# Altium schematic symbol library BlueTooth.SchLib: 1 symbol
Pins are listed as number, name and electrical type; pins without a type are passive.

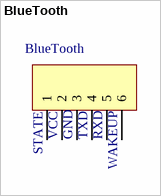
[diagram p0: symbol BlueTooth]

## BlueTooth
designator BlueTooth  (value not drawn)
footprint BlueTooth
pins: 1, 2, 3, 4, 5, 6
text: VCC; GND; TXD; RXD; STATE; WAKEUP